# EAGLE library part TPA6204A1 (library m-pad-2.1)
Ti's TPA6204A1 1.7-W mono fully-differential audio amplifier DESCRIPTION The TPA6204A1 is a 1.7-W mono fully-differential amplifier designed to drive a speaker with at least 8-? impedance while consuming only 20 mm2 total printed-circuit board (PCB) area in most applications. The device operates from 2.5 V to 5.5 V, drawing only 4 mA of quiescent supply current. The TPA6204A1 is available in the space-saving 3 mm x 3 mm QFN (DRB) package. The TPA6204A1 is ideal for PDA/smart phone applications due to features such as ?80-dB supply voltage rejection from 20 Hz to 2 kHz, improved RF rectification immunity, small PCB area, and a fast startup with minimal pop. FEATURES Designed for Wireless or Cellular Handsets and PDAs 1.7 W Into 8 ? From a 5-V Supply at THD = 10% (Typ) Low Supply Current: 4 mA typ at 5 V Shutdown Current: 0.01 uA Typ Fast Startup With Minimal Pop Only Three External Components - Improved PSRR (?80 dB) and Wide Supply Voltage (2.5 V to 5.5 V) for Direct Battery Operation - Fully Differential Design Reduces RF Rectification - -63 dB CMRR Eliminates Two Input Coupling Capacitors Pin to Pin Compatible With TPA2005D1 and TPA6211A1 in QFN Package Available in 3 mm X 3 mm QFN Package (DRB) APPLICATIONS Ideal for Wireless Handsets PDAs Notebook Computers Please send any comments to: messi@users.sourceforge.net
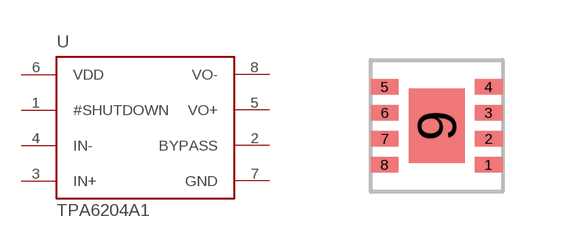
[diagram p114: symbol with the pads of QFN8-DRB; footprint QFN8-DRB]

Designator prefix U

## TPA6204A1-DRB  [QFN8-DRB]
1  #SHUTDOWN  in
2  BYPASS  pas
3  IN+  in
4  IN-  in
5  VO+  out
6  VDD  pwr
7  GND  pwr
8  VO-  out

## Footprint QFN8-DRB (pad centres in mm)
smd 0.7 x 0.38: 1 1.3,-0.975; 2 1.3,-0.325; 3 1.3,0.325; 4 1.3,0.975; 5 -1.3,0.975; 6 -1.3,0.325; 7 -1.3,-0.325; 8 -1.3,-0.975
smd 1.4 x 1.85: 9 0,0